# EAGLE library part FDS6912A (library zz-m-pad-2.1)
Fairchild's FDS6912A Dual N-Channel Logic Level PowerTrench MOSFET General Description: These N-Channel Logic Level MOSFETs are produced using Fairchild Semiconductor's advanced PowerTrench process that has been especially tailored to minimize the on-state resistance and yet maintain superior switching performance. These devices are well suited for low voltage and battery powered applications where low in-line power loss and fast switching are required. Features: 6 A, 30 V. RDS(ON) = 28 mOhm @ VGS = 10 V RDS(ON) = 35 mOhm @ VGS = 4.5 V Fast switching speed Low gate charge High performance trench technology for extremely low RDS(ON) High power and current handling capability Please send any comments to: messi@users.sourceforge.net
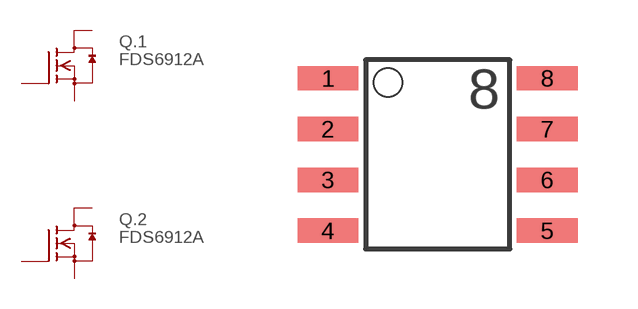
[diagram p72: symbol with the pads of SO-8; footprint SO-8]

Designator prefix Q; gates .1=IGFET-4-N-CH .2=IGFET-4-N-CH

## FDS6912A  [SO-8]
1  .2:S  pas
2  .2:G  pas
3  .1:S  pas
4  .1:G  pas
5  .1:D  pas
6  .1:D  pas
7  .2:D  pas
8  .2:D  pas

## Footprint SO-8 (pad centres in mm)
small outline
smd 1.524 x 0.61: 1 -2.743,1.27; 2 -2.743,0; 3 -2.743,-1.27; 4 -2.743,-2.54; 5 2.743,-2.54; 6 2.743,-1.27; 7 2.743,0; 8 2.743,1.27